# EAGLE library part CS8427-CSZ (library Cirrus_Logic_By_element14_Batch_1)
Digital Audio Interface Transceiver
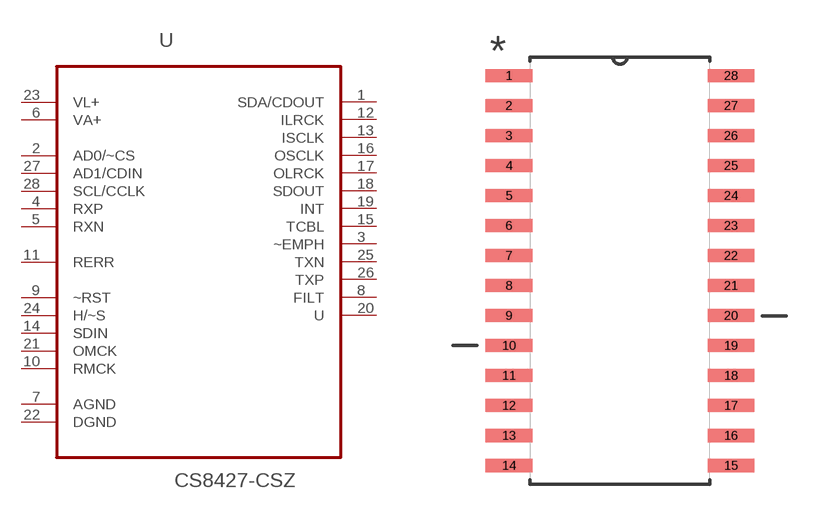
[diagram p8: symbol with the pads of SOIC127P1032X265-28N; footprint SOIC127P1032X265-28N]

Designator prefix U

## CS8427-CSZ (DESCRIPTION: Digital Audio Interface Transceiver; MPN: CS8427-CSZ; OC_FARNELL: 1557472; OC_NEWARK: 03M4664; PACKAGE: SOIC-8; SUPPLIER: CIRRUS LOGIC)  [SOIC127P1032X265-28N]
1  SDA/CDOUT
2  AD0/~CS  in
3  ~EMPH  out
4  RXP  in
5  RXN  in
6  VA+  pwr
7  AGND  pas
8  FILT  out
9  ~RST  in
10  RMCK
11  RERR  out
12  ILRCK
13  ISCLK
14  SDIN  in
15  TCBL
16  OSCLK
17  OLRCK
18  SDOUT  out
19  INT  out
20  U
21  OMCK  in
22  DGND  pas
23  VL+  pwr
24  H/~S  in
25  TXN  out
26  TXP  out
27  AD1/CDIN  in
28  SCL/CCLK  in

## Footprint SOIC127P1032X265-28N (pad centres in mm)
smd 1.981 x 0.559: 1 -4.699,8.255; 2 -4.699,6.985; 3 -4.699,5.715; 4 -4.699,4.445; 5 -4.699,3.175; 6 -4.699,1.905; 7 -4.699,0.635; 8 -4.699,-0.635; 9 -4.699,-1.905; 10 -4.699,-3.175; 11 -4.699,-4.445; 12 -4.699,-5.715; 13 -4.699,-6.985; 14 -4.699,-8.255; 15 4.699,-8.255; 16 4.699,-6.985; 17 4.699,-5.715; 18 4.699,-4.445; 19 4.699,-3.175; 20 4.699,-1.905; 21 4.699,-0.635; 22 4.699,0.635; 23 4.699,1.905; 24 4.699,3.175; 25 4.699,4.445; 26 4.699,5.715; 27 4.699,6.985; 28 4.699,8.255